# EAGLE library part LCD3510I (library GuShH)
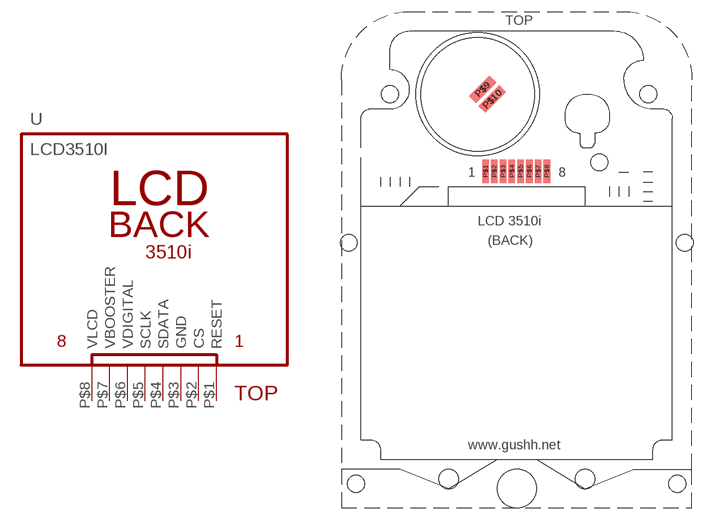
[diagram p3: symbol with the pads of LCD3510I; footprint LCD3510I]

Designator prefix -

## LCD3510I  [LCD3510I]
P$1  RESET
P$2  CS
P$3  GND
P$4  SDATA
P$5  SCLK
P$6  VDIGITAL
P$7  VBOOSTER
P$8  VLCD

## Footprint LCD3510I (pad centres in mm)
smd 0.864 x 3.048: P$1 -4.064,18.542; P$2 -2.921,18.542; P$3 -1.778,18.542; P$4 -0.635,18.542; P$5 0.508,18.542; P$6 1.651,18.542; P$7 2.794,18.542; P$8 3.937,18.542
smd 3.81 x 1.27 rotated 225: P$9 -4.445,29.21; P$10 -3.175,27.94
hole 2.2 at -20.955,-22.225
hole 2.2 at 20.955,-22.225
hole 2.2 at -16.51,28.575
hole 2.2 at 17.145,28.575
hole 2.2 at 10.795,19.685
hole 2.2 at 21.907,9.207
hole 2.2 at -21.907,9.207